# Altium schematic symbol library 110-407.SchLib: 1 symbol
Pins are listed as number, name and electrical type; pins without a type are passive.

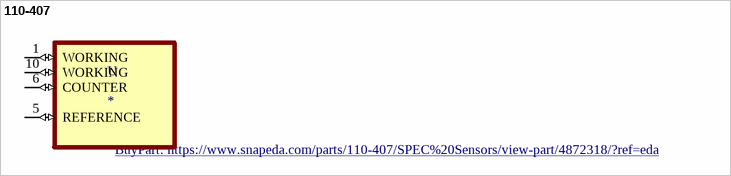
[diagram p0: symbol 110-407]

## 110-407
designator U
SENSOR GAS O3 SMT; MP: 110-407; MF: SPEC Sensors, LLC; Package: None; Availability: Bad; SnapEDA_Link: https://www.snapeda.com/parts/110-407/SPEC%20Sensors/view-part/4872318/?ref=snap; Price: None; Value: *; DigiKey-Purchase-URL: https://snapeda.com/shop?store=DigiKey&id=4872318; BuyPart: https://www.snapeda.com/parts/110-407/SPEC%20Sensors/view-part/4872318/?ref=eda
footprint XDCR_110-407
pins: 1 WORKING (io), 5 REFERENCE (io), 6 COUNTER (io), 10 WORKING (io)